# Altium schematic symbol library EP3C25.SchLib: 6 symbols
Pins are listed as number, name and electrical type; pins without a type are passive.

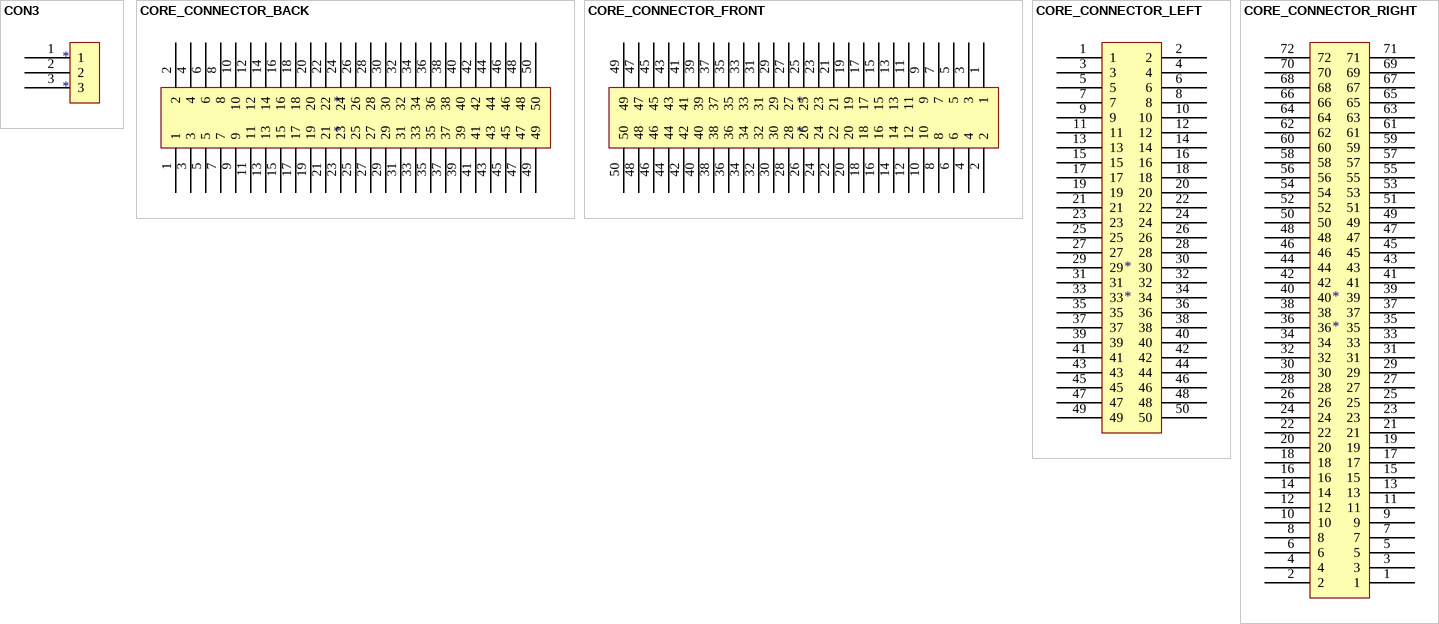
[diagram p0: symbols CON3 to CORE_CONNECTOR_RIGHT]

## CON3
designator *
pins: 1, 2, 3

## CORE_CONNECTOR_BACK
designator *
pins: 1, 2, 3, 4, 5, 6, 7, 8, 9, 10, 11, 12, 13, 14, 15, 16, 17, 18, 19, 20, 21, 22, 23, 24, 25, 26, 27, 28, 29, 30, 31, 32, 33, 34, 35, 36, 37, 38, 39, 40, 41, 42, 43, 44, 45, 46, 47, 48, 49, 50

## CORE_CONNECTOR_FRONT
designator *
pins: 1, 2, 3, 4, 5, 6, 7, 8, 9, 10, 11, 12, 13, 14, 15, 16, 17, 18, 19, 20, 21, 22, 23, 24, 25, 26, 27, 28, 29, 30, 31, 32, 33, 34, 35, 36, 37, 38, 39, 40, 41, 42, 43, 44, 45, 46, 47, 48, 49, 50

## CORE_CONNECTOR_LEFT
designator *
pins: 1, 2, 3, 4, 5, 6, 7, 8, 9, 10, 11, 12, 13, 14, 15, 16, 17, 18, 19, 20, 21, 22, 23, 24, 25, 26, 27, 28, 29, 30, 31, 32, 33, 34, 35, 36, 37, 38, 39, 40, 41, 42, 43, 44, 45, 46, 47, 48, 49, 50

## CORE_CONNECTOR_RIGHT
designator *
pins: 1, 2, 3, 4, 5, 6, 7, 8, 9, 10, 11, 12, 13, 14, 15, 16, 17, 18, 19, 20, 21, 22, 23, 24, 25, 26, 27, 28, 29, 30, 31, 32, 33, 34, 35, 36, 37, 38, 39, 40, 41, 42, 43, 44, 45, 46, 47, 48, 49, 50, 51, 52, 53, 54, 55, 56, 57, 58, 59, 60, 61, 62, 63, 64, 65, 66, 67, 68, 69, 70, 71, 72

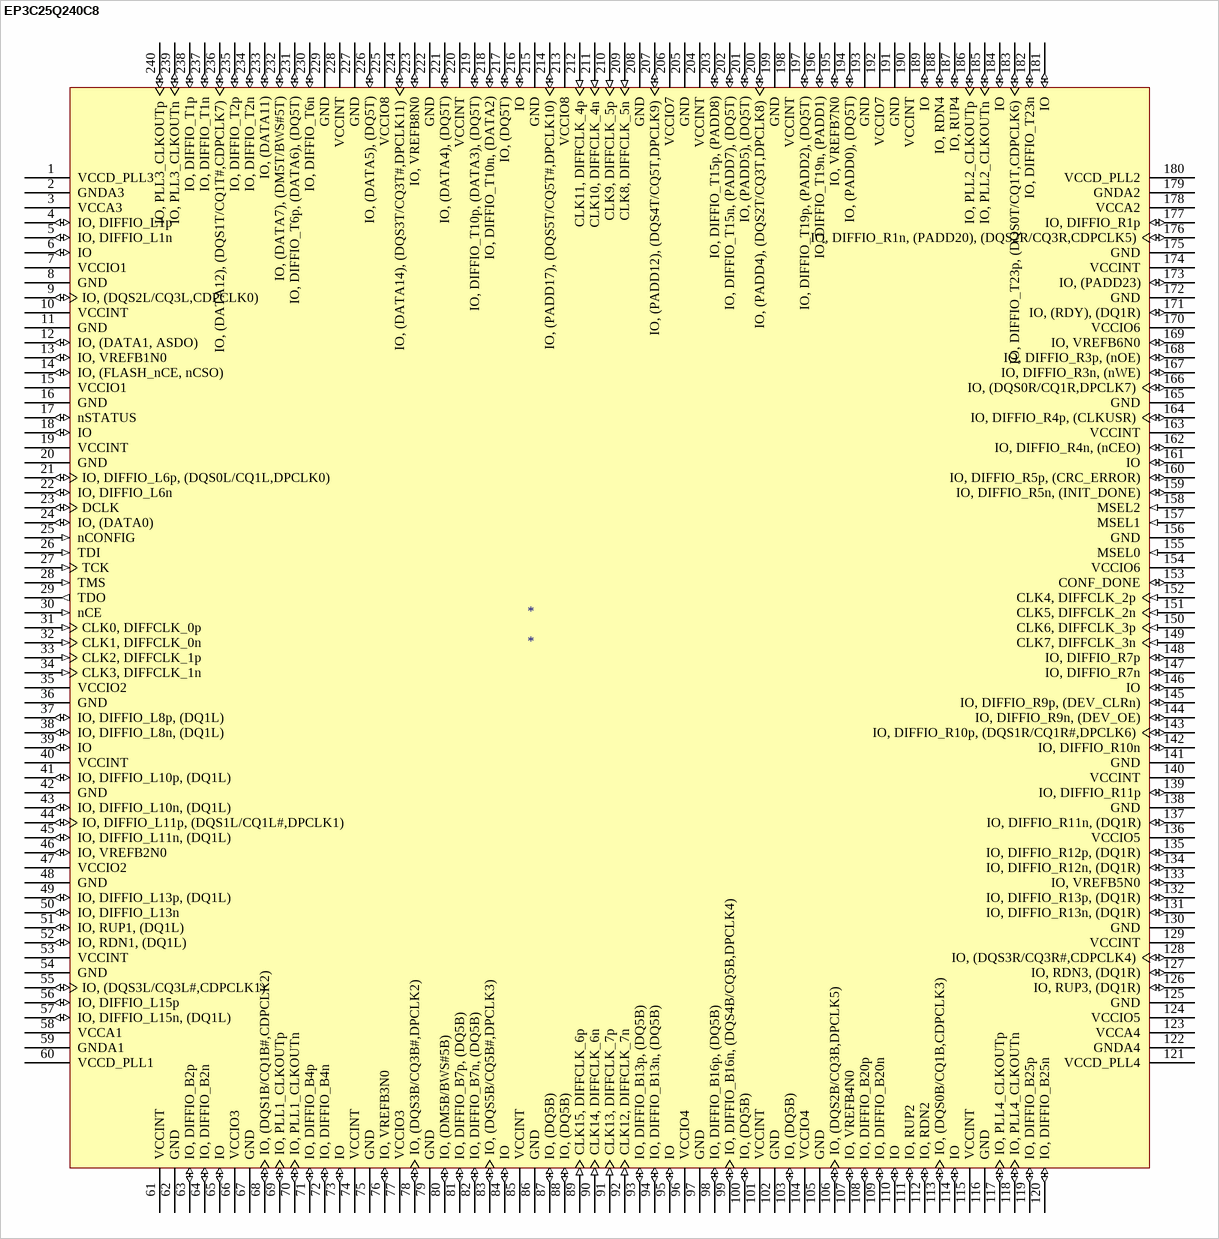
[diagram p1: symbol EP3C25Q240C8]

## EP3C25Q240C8
designator *
pins: 1 VCCD_PLL3 (power), 2 GNDA3 (power), 3 VCCA3 (power), 4 IO, DIFFIO_L1p (io), 5 IO, DIFFIO_L1n (io), 6 IO (io), 7 VCCIO1 (power), 8 GND (power), 9 IO, (DQS2L/CQ3L,CDPCLK0) (io), 10 VCCINT (power), 11 GND (power), 12 IO, (DATA1, ASDO) (io), 13 IO, VREFB1N0 (io), 14 IO, (FLASH_nCE, nCSO) (io), 15 VCCIO1 (power), 16 GND (power), 17 nSTATUS (io), 18 IO (io), 19 VCCINT (power), 20 GND (power), 21 IO, DIFFIO_L6p, (DQS0L/CQ1L,DPCLK0) (io), 22 IO, DIFFIO_L6n (io), 23 DCLK (io), 24 IO, (DATA0) (io), 25 nCONFIG (in), 26 TDI (in), 27 TCK (in), 28 TMS (in), 29 TDO (out), 30 nCE (in), 31 CLK0, DIFFCLK_0p (in), 32 CLK1, DIFFCLK_0n (in), 33 CLK2, DIFFCLK_1p (in), 34 CLK3, DIFFCLK_1n (in), 35 VCCIO2 (power), 36 GND (power), 37 IO, DIFFIO_L8p, (DQ1L) (io), 38 IO, DIFFIO_L8n, (DQ1L) (io), 39 IO (io), 40 VCCINT (power), 41 IO, DIFFIO_L10p, (DQ1L) (io), 42 GND (power), 43 IO, DIFFIO_L10n, (DQ1L) (io), 44 IO, DIFFIO_L11p, (DQS1L/CQ1L#,DPCLK1) (io), 45 IO, DIFFIO_L11n, (DQ1L) (io), 46 IO, VREFB2N0 (io), 47 VCCIO2 (power), 48 GND (power), 49 IO, DIFFIO_L13p, (DQ1L) (io), 50 IO, DIFFIO_L13n (io), 51 IO, RUP1, (DQ1L) (io), 52 IO, RDN1, (DQ1L) (io), 53 VCCINT (power), 54 GND (power), 55 IO, (DQS3L/CQ3L#,CDPCLK1) (io), 56 IO, DIFFIO_L15p (io), 57 IO, DIFFIO_L15n, (DQ1L) (io), 58 VCCA1 (power), 59 GNDA1 (power), 60 VCCD_PLL1 (power), 61 VCCINT (power), 62 GND (power), 63 IO, DIFFIO_B2p (io), 64 IO, DIFFIO_B2n (io), 65 IO (io), 66 VCCIO3 (power), 67 GND (power), 68 IO, (DQS1B/CQ1B#,CDPCLK2) (io), 69 IO, PLL1_CLKOUTp (io), 70 IO, PLL1_CLKOUTn (io), 71 IO, DIFFIO_B4p (io), 72 IO, DIFFIO_B4n (io), 73 IO (io), 74 VCCINT (power), 75 GND (power), 76 IO, VREFB3N0 (io), 77 VCCIO3 (power), 78 IO, (DQS3B/CQ3B#,DPCLK2) (io), 79 GND (power), 80 IO, (DM5B/BWS#5B) (io), 81 IO, DIFFIO_B7p, (DQ5B) (io), 82 IO, DIFFIO_B7n, (DQ5B) (io), 83 IO, (DQS5B/CQ5B#,DPCLK3) (io), 84 IO (io), 85 VCCINT (power), 86 GND (power), 87 IO, (DQ5B) (io), 88 IO, (DQ5B) (io), 89 CLK15, DIFFCLK_6p (in), 90 CLK14, DIFFCLK_6n (in), 91 CLK13, DIFFCLK_7p (in), 92 CLK12, DIFFCLK_7n (in), 93 IO, DIFFIO_B13p, (DQ5B) (io), 94 IO, DIFFIO_B13n, (DQ5B) (io), 95 IO (io), 96 VCCIO4 (power), 97 GND (power), 98 IO, DIFFIO_B16p, (DQ5B) (io), 99 IO, DIFFIO_B16n, (DQS4B/CQ5B,DPCLK4) (io), 100 IO, (DQ5B) (io), 101 VCCINT (power), 102 GND (power), 103 IO, (DQ5B) (io), 104 VCCIO4 (power), 105 GND (power), 106 IO, (DQS2B/CQ3B,DPCLK5) (io), 107 IO, VREFB4N0 (io), 108 IO, DIFFIO_B20p (io), 109 IO, DIFFIO_B20n (io), 110 IO (io), 111 IO, RUP2 (io), 112 IO, RDN2 (io), 113 IO, (DQS0B/CQ1B,CDPCLK3) (io), 114 IO (io), 115 VCCINT (power), 116 GND (power), 117 IO, PLL4_CLKOUTp (io), 118 IO, PLL4_CLKOUTn (io), 119 IO, DIFFIO_B25p (io), 120 IO, DIFFIO_B25n (io), 121 VCCD_PLL4 (power), 122 GNDA4 (power), 123 VCCA4 (power), 124 VCCIO5 (power), 125 GND (power), 126 IO, RUP3, (DQ1R) (io), 127 IO, RDN3, (DQ1R) (io), 128 IO, (DQS3R/CQ3R#,CDPCLK4) (io), 129 VCCINT (power), 130 GND (power), 131 IO, DIFFIO_R13n, (DQ1R) (io), 132 IO, DIFFIO_R13p, (DQ1R) (io), 133 IO, VREFB5N0 (io), 134 IO, DIFFIO_R12n, (DQ1R) (io), 135 IO, DIFFIO_R12p, (DQ1R) (io), 136 VCCIO5 (power), 137 IO, DIFFIO_R11n, (DQ1R) (io), 138 GND (power), 139 IO, DIFFIO_R11p (io), 140 VCCINT (power), 141 GND (power), 142 IO, DIFFIO_R10n (io), 143 IO, DIFFIO_R10p, (DQS1R/CQ1R#,DPCLK6) (io), 144 IO, DIFFIO_R9n, (DEV_OE) (io), 145 IO, DIFFIO_R9p, (DEV_CLRn) (io), 146 IO (io), 147 IO, DIFFIO_R7n (io), 148 IO, DIFFIO_R7p (io), 149 CLK7, DIFFCLK_3n (in), 150 CLK6, DIFFCLK_3p (in), 151 CLK5, DIFFCLK_2n (in), 152 CLK4, DIFFCLK_2p (in), 153 CONF_DONE (io), 154 VCCIO6 (power), 155 MSEL0 (in), 156 GND (power), 157 MSEL1 (in), 158 MSEL2 (in), 159 IO, DIFFIO_R5n, (INIT_DONE) (io), 160 IO, DIFFIO_R5p, (CRC_ERROR) (io), 161 IO (io), 162 IO, DIFFIO_R4n, (nCEO) (io), 163 VCCINT (power), 164 IO, DIFFIO_R4p, (CLKUSR) (io), 165 GND (power), 166 IO, (DQS0R/CQ1R,DPCLK7) (io), 167 IO, DIFFIO_R3n, (nWE) (io), 168 IO, DIFFIO_R3p, (nOE) (io), 169 IO, VREFB6N0 (io), 170 VCCIO6 (power), 171 IO, (RDY), (DQ1R) (io), 172 GND (power), 173 IO, (PADD23) (io), 174 VCCINT (power), 175 GND (power), 176 IO, DIFFIO_R1n, (PADD20), (DQS2R/CQ3R,CDPCLK5) (io), 177 IO, DIFFIO_R1p (io), 178 VCCA2 (power), 179 GNDA2 (power), 180 VCCD_PLL2 (power), 181 IO (io), 182 IO, DIFFIO_T23n (io), 183 IO, DIFFIO_T23p, (DQS0T/CQ1T,CDPCLK6) (io), 184 IO (io), 185 IO, PLL2_CLKOUTn (io), 186 IO, PLL2_CLKOUTp (io), 187 IO, RUP4 (io), 188 IO, RDN4 (io), 189 IO (io), 190 VCCINT (power), 191 GND (power), 192 VCCIO7 (power), 193 GND (power), 194 IO, (PADD0), (DQ5T) (io), 195 IO, VREFB7N0 (io), 196 IO, DIFFIO_T19n, (PADD1) (io), 197 IO, DIFFIO_T19p, (PADD2), (DQ5T) (io), 198 VCCINT (power), 199 GND (power), 200 IO, (PADD4), (DQS2T/CQ3T,DPCLK8) (io), 201 IO, (PADD5), (DQ5T) (io), 202 IO, DIFFIO_T15n, (PADD7), (DQ5T) (io), 203 IO, DIFFIO_T15p, (PADD8) (io), 204 VCCINT (power), 205 GND (power), 206 VCCIO7 (power), 207 IO, (PADD12), (DQS4T/CQ5T,DPCLK9) (io), 208 GND (power), 209 CLK8, DIFFCLK_5n (in), 210 CLK9, DIFFCLK_5p (in), 211 CLK10, DIFFCLK_4n (in), 212 CLK11, DIFFCLK_4p (in), 213 VCCIO8 (power), 214 IO, (PADD17), (DQS5T/CQ5T#,DPCLK10) (io), 215 GND (power), 216 IO (io), 217 IO, (DQ5T) (io), 218 IO, DIFFIO_T10n, (DATA2) (io), 219 IO, DIFFIO_T10p, (DATA3), (DQ5T) (io), 220 VCCINT (power), 221 IO, (DATA4), (DQ5T) (io), 222 GND (power), 223 IO, VREFB8N0 (io), 224 IO, (DATA14), (DQS3T/CQ3T#,DPCLK11) (io), 225 VCCIO8 (power), 226 IO, (DATA5), (DQ5T) (io), 227 GND (power), 228 VCCINT (power), 229 GND (power), 230 IO, DIFFIO_T6n (io), 231 IO, DIFFIO_T6p, (DATA6), (DQ5T) (io), 232 IO, (DATA7), (DM5T/BWS#5T) (io), 233 IO, (DATA11) (io), 234 IO, DIFFIO_T2n (io), 235 IO, DIFFIO_T2p (io), 236 IO, (DATA12), (DQS1T/CQ1T#,CDPCLK7) (io), 237 IO, DIFFIO_T1n (io), 238 IO, DIFFIO_T1p (io), 239 IO, PLL3_CLKOUTn (io), 240 IO, PLL3_CLKOUTp (io)